# Altium footprint library 2015-02-06_01-57-19.PcbLib: 9 footprints
Each footprint in its own frame and in the unit in brackets; x right, y up, seen from the top. Pads: shape width x height; smd on the part's side, far side on the other; paste and mask are expansions set on the pad; w line width, h text height; cw(c..) or ccw(c..) is an arc to the next point about the centre after c.
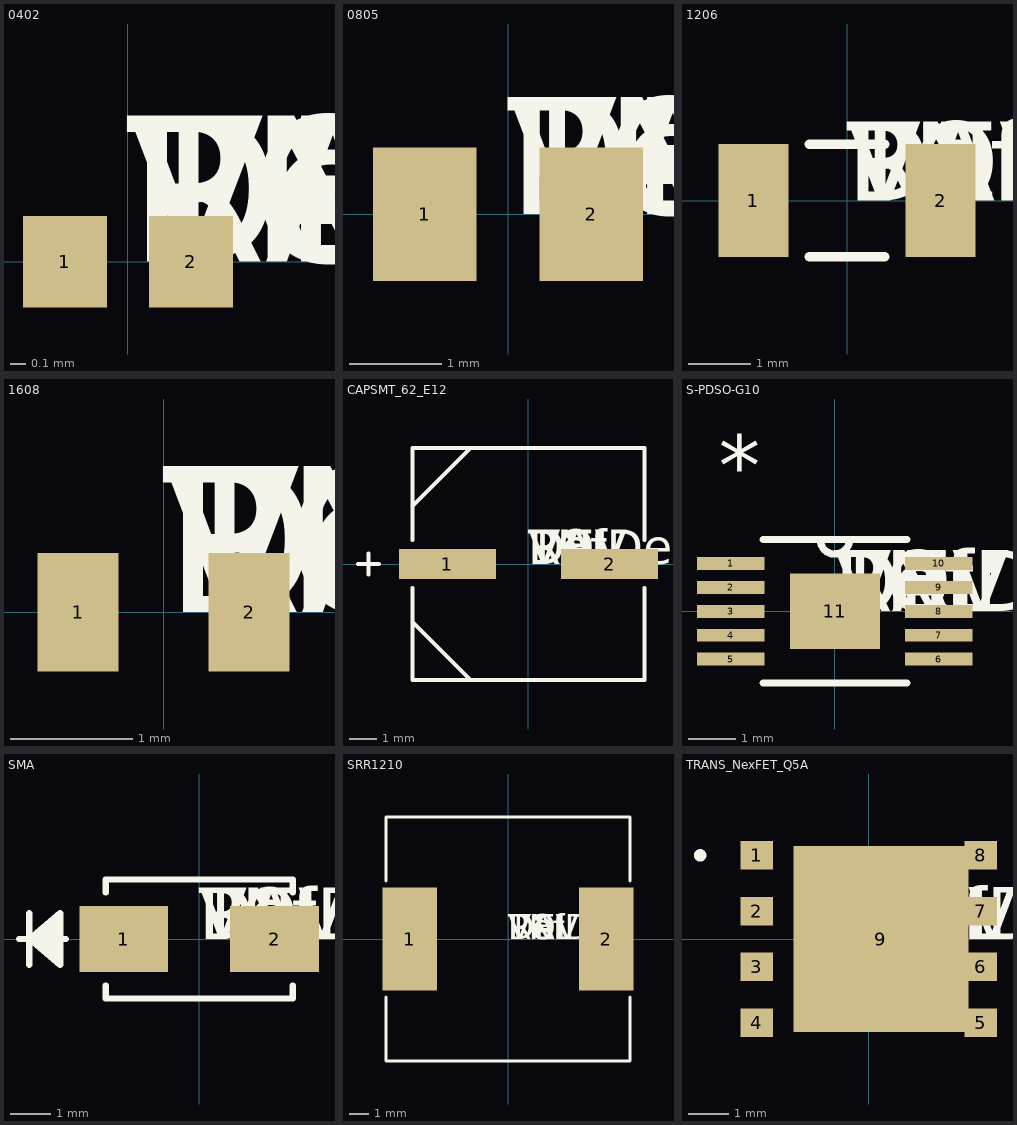
[diagram p0: the footprints below, top view; thin cyan lines are the x and y axes]

## 0402 [mil]
pads (2):
  rect 22x24 smd: 1(-16.5,0) 2(16.5,0)
Top Overlay:
  text "RefDes" at 0,0 h50
  text "DEV" at 0,0 h50
  text "PN" at 0,0 h50
  text "DEV" at 0,0 h50
  text "VAL" at 0,0 h50
  text "TOL" at 0,0 h50

## 0805 [mil]
pads (2):
  rect 44x57 smd: 1(-35.5,0) 2(35.5,0)
Top Overlay:
  text "RefDes" at 0,0 h50
  text "DEV" at 0,0 h50
  text "PN" at 0,0 h50
  text "DEV" at 0,0 h50
  text "VAL" at 0,0 h50
  text "TOL" at 0,0 h50

## 1206 [mil]
pads (2):
  rect 44x71 smd: 1(-59,0) 2(59,0)
Top Overlay:
  lines w6: -23.9,-35.5 23.9,-35.5 ; -23.9,35.5 23.9,35.5
  text "RefDes" at 0,0 h50
  text "DEV" at 0,0 h50
  text "PN" at 0,0 h50
  text "DEV" at 0,0 h50
  text "VAL" at 0,0 h50
  text "TOL" at 0,0 h50

## 1608 [mil]
pads (2):
  rect 26x38 smd: 1(-27.5,0) 2(27.5,0)
Top Overlay:
  text "RefDes" at 0,0 h50
  text "DEV" at 0,0 h50
  text "PN" at 0,0 h50
  text "DEV" at 0,0 h50
  text "VAL" at 0,0 h50
  text "TOL" at 0,0 h50

## CAPSMT_62_E12 [mil]
pads (2):
  rect 140x43 smd: 1(-117,0) 2(117,0)
Top Overlay:
  lines w6: -246,0 -216,0 ; -231,-15 -231,15 ; -167.5,-83.75 -83.75,-167.5 ; -167.5,-34.6 -167.5,-167.5 167.5,-167.5 167.5,-34.6 ; -167.5,34.6 -167.5,167.5 167.5,167.5 167.5,34.6 ; -167.5,83.75 -83.75,167.5
  text "RefDes" at 0,0 h50
  text "DEV" at 0,0 h50
  text "PN" at 0,0 h50
  text "DEV" at 0,0 h50
  text "VAL" at 0,0 h50
  text "TOL" at 0,0 h50

## S-PDSO-G10 [mm]
pads (11):
  rect 1.411x0.27 smd: 1(-2.175,1) 2(-2.175,0.5) 3(-2.175,0) 4(-2.175,-0.5) 5(-2.175,-1) 6(2.175,-1) 7(2.175,-0.5) 8(2.175,0) 9(2.175,0.5) 10(2.175,1)
  rect 1.88x1.57 smd paste-0.927: 11(0,0)
Top Overlay:
  region: 3.135,1.191 3.389,1.191 3.389,0.81 3.135,0.81
  lines w0.152: -1.5,-1.5 1.5,-1.5 ; -1.5,1.5 1.5,1.5 ; -0.305,1.5 ccw(c0,1.5) 0.305,1.5
  text "*" at -2.429,2.413 h1.27
  text "RefDes" at 0,0 h1.27
  text "DEV" at 0,0 h1.27
  text "PN" at 0,0 h1.27
  text "DEV" at 0,0 h1.27
  text "VAL" at 0,0 h1.27
  text "TOL" at 0,0 h1.27
Top Paste:
  region: 0.94,0.785 -0.94,0.785 -0.94,-0.785 0.94,-0.785

## SMA [mil]
pads (2):
  rect 86x64 smd: 1(-73,0) 2(73,0)
Top Overlay:
  lines w6: -174.5,0 -129.1,0 ; -164.5,-25 -164.5,25 ; -134.5,-20 -164.5,0 ; -134.5,-15 -164.5,0 ; -134.5,-10 -164.5,0 ; -134.5,-5 -164.5,0 ; -134.5,5 -164.5,0 ; -134.5,10 -164.5,0 ; -134.5,15 -164.5,0 ; -134.5,20 -164.5,0 ; -90.5,-45.1 -90.5,-57.5 90.5,-57.5 90.5,-45.1 ; -90.5,45.1 -90.5,57.5 90.5,57.5 90.5,45.1 ; -164.5,0 -134.5,25 -134.5,-25 -164.5,0
  text "RefDes" at 0,0 h50
  text "DEV" at 0,0 h50
  text "PN" at 0,0 h50
  text "DEV" at 0,0 h50
  text "VAL" at 0,0 h50
  text "TOL" at 0,0 h50

## SRR1210 [mil]
pads (2):
  rect 110x209 smd: 1(-198.5,0) 2(198.5,0)
Top Overlay:
  lines w6: -246,-117.6 -246,-246 246,-246 246,-117.6 ; -246,117.6 -246,246 246,246 246,117.6
  text "RefDes" at 0,0 h50
  text "DEV" at 0,0 h50
  text "PN" at 0,0 h50
  text "DEV" at 0,0 h50
  text "VAL" at 0,0 h50
  text "TOL" at 0,0 h50

## TRANS_NexFET_Q5A [mm]
pads (9):
  rect 0.8x0.7 smd paste-0.387: 1(-2.752,2.055) 2(-2.752,0.685) 3(-2.752,-0.685) 4(-2.752,-2.055) 5(2.752,-2.055) 6(2.752,-0.685) 7(2.752,0.685) 8(2.752,2.055)
  rect 4.3x4.56 smd paste-2.267 mask+0.025: 9(0.3,0)
Top Overlay:
  circle w0.152: c-4.141,2.055 r0.076
  text "RefDes" at 0,0 h1.27
  text "DEV" at 0,0 h1.27
  text "PN" at 0,0 h1.27
  text "DEV" at 0,0 h1.27
  text "VAL" at 0,0 h1.27
  text "TOL" at 0,0 h1.27
Top Paste:
  region: -0.617,2.18 -1.85,2.18 -1.85,0.86 -0.617,0.86
  region: -0.617,0.66 -1.85,0.66 -1.85,-0.66 -0.617,-0.66
  region: -0.617,-0.86 -1.85,-0.86 -1.85,-2.18 -0.617,-2.18
  region: 0.817,2.18 -0.417,2.18 -0.417,0.86 0.817,0.86
  region: 0.817,0.66 -0.417,0.66 -0.417,-0.66 0.817,-0.66
  region: 0.817,-0.86 -0.417,-0.86 -0.417,-2.18 0.817,-2.18
  region: 2.25,2.18 1.017,2.18 1.017,0.86 2.25,0.86
  region: 2.25,0.66 1.017,0.66 1.017,-0.66 2.25,-0.66
  region: 2.25,-0.86 1.017,-0.86 1.017,-2.18 2.25,-2.18
  region: -2.352,2.405 -3.153,2.405 -3.153,1.705 -2.352,1.705
  region: -2.352,1.035 -3.153,1.035 -3.153,0.335 -2.352,0.335
  region: -2.352,-0.335 -3.153,-0.335 -3.153,-1.035 -2.352,-1.035
  region: -2.352,-1.705 -3.153,-1.705 -3.153,-2.405 -2.352,-2.405
  region: 3.153,-1.705 2.352,-1.705 2.352,-2.405 3.153,-2.405
  region: 3.153,-0.335 2.352,-0.335 2.352,-1.035 3.153,-1.035
  region: 3.153,1.035 2.352,1.035 2.352,0.335 3.153,0.335
  region: 3.153,2.405 2.352,2.405 2.352,1.705 3.153,1.705
Top Solder:
  region: -2.352,2.405 -3.153,2.405 -3.153,1.705 -2.352,1.705
  region: -2.352,1.035 -3.153,1.035 -3.153,0.335 -2.352,0.335
  region: -2.352,-0.335 -3.153,-0.335 -3.153,-1.035 -2.352,-1.035
  region: -2.352,-1.705 -3.153,-1.705 -3.153,-2.405 -2.352,-2.405
  region: 3.153,-1.705 2.352,-1.705 2.352,-2.405 3.153,-2.405
  region: 3.153,-0.335 2.352,-0.335 2.352,-1.035 3.153,-1.035
  region: 3.153,1.035 2.352,1.035 2.352,0.335 3.153,0.335
  region: 3.153,2.405 2.352,2.405 2.352,1.705 3.153,1.705
  region: 2.35,-2.28 2.35,2.28 -1.95,2.28 -1.95,-2.28